# Altium footprint library AP62200Z6-7.PcbLib: 3 footprints
Each footprint in its own frame and in the unit in brackets; x right, y up, seen from the top. Pads: shape width x height; smd on the part's side, far side on the other; paste and mask are expansions set on the pad; w line width, h text height; cw(c..) or ccw(c..) is an arc to the next point about the centre after c.
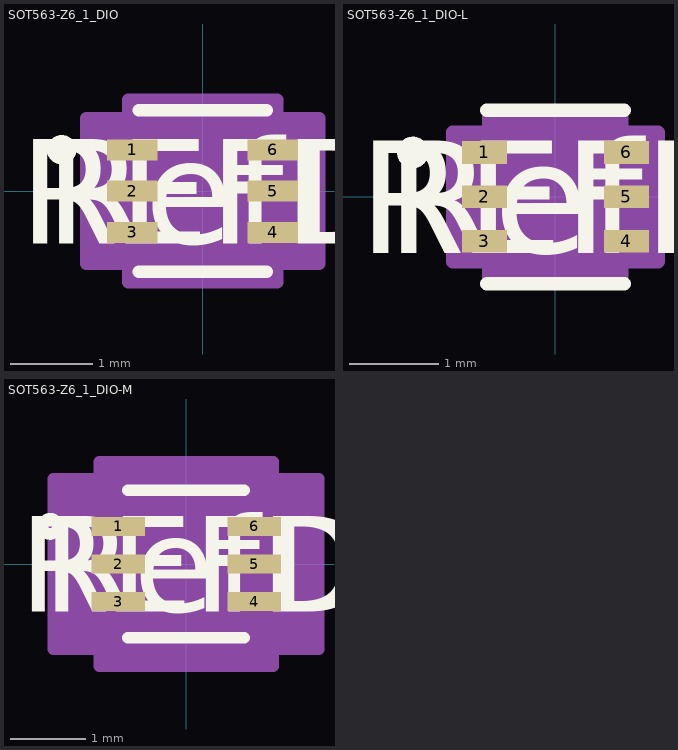
[diagram p0: the footprints below, top view; thin cyan lines are the x and y axes]

## SOT563-Z6_1_DIO [mil]
pads (6):
  rect 24x10 smd paste+0 mask+0: 1(-33.5,19.68) 2(-33.5,0) 3(-33.5,-19.68) 4(33.5,-19.68) 5(33.5,0) 6(33.5,19.68)
Top Overlay:
  circle w6: c-67.19,19.68 r4
  lines w6: -30.5,-38.5 30.5,-38.5 ; -30.5,38.5 30.5,38.5
  text "RefDes" at -75,-25 h50
  text "REFDES" at -87.5,-25 h50
Mechanical 13:
  circle w0: c-21.5,19.68 r3
  lines w0: -12,33.5 ccw(c0,33.5) 12,33.5
  lines w1: -25.5,-33.5 25.5,-33.5 25.5,33.5 -25.5,33.5 -25.5,-33.5
  text "RefDes2" at -87.5,-25 h50
Mechanical 15:
  region: -35.5,-34.69 -55.5,-34.69 -55.5,34.69 -35.5,34.69 -35.5,43.5 35.5,43.5 35.5,34.69 55.5,34.69 55.5,-34.69 35.5,-34.69 35.5,-43.5 -35.5,-43.5
  lines w6: -55.5,-34.69 -55.5,34.69 -35.5,34.69 -35.5,43.5 35.5,43.5 35.5,34.69 55.5,34.69 55.5,-34.69 35.5,-34.69 35.5,-43.5 -35.5,-43.5 -35.5,-34.69 -55.5,-34.69
3D body "SOT563-Z6_1_DIO.step": height 24.09, standoff 0, extent -33.5,-33.5 33.5,33.5

## SOT563-Z6_1_DIO-L [mil]
pads (6):
  rect 20x10 smd paste+0 mask+0: 1(-31.5,19.68) 2(-31.5,0) 3(-31.5,-19.68) 4(31.5,-19.68) 5(31.5,0) 6(31.5,19.68)
Top Overlay:
  circle w6: c-63.19,19.68 r4
  lines w6: -30.5,-38.5 30.5,-38.5 ; -30.5,38.5 30.5,38.5
  text "RefDes" at -75,-25 h50
  text "REFDES" at -87.5,-25 h50
Mechanical 13:
  circle w0: c-21.5,19.68 r3
  lines w0: -12,33.5 ccw(c0,33.5) 12,33.5
  lines w1: -25.5,-33.5 25.5,-33.5 25.5,33.5 -25.5,33.5 -25.5,-33.5
  text "RefDes2" at -87.5,-25 h50
Mechanical 15:
  region: -29.5,-28.68 -45.5,-28.68 -45.5,28.68 -29.5,28.68 -29.5,37.5 29.5,37.5 29.5,28.68 45.5,28.68 45.5,-28.68 29.5,-28.68 29.5,-37.5 -29.5,-37.5
  lines w6: -45.5,-28.68 -45.5,28.68 -29.5,28.68 -29.5,37.5 29.5,37.5 29.5,28.68 45.5,28.68 45.5,-28.68 29.5,-28.68 29.5,-37.5 -29.5,-37.5 -29.5,-28.68 -45.5,-28.68
3D body "SOT563-Z6_1_DIO.step": height 24.09, standoff 0, extent -33.5,-33.5 33.5,33.5

## SOT563-Z6_1_DIO-M [mil]
pads (6):
  rect 28x10 smd paste+0 mask+0: 1(-35.5,19.68) 2(-35.5,0) 3(-35.5,-19.68) 4(35.5,-19.68) 5(35.5,0) 6(35.5,19.68)
Top Overlay:
  circle w6: c-71.19,19.68 r4
  lines w6: -30.5,-38.5 30.5,-38.5 ; -30.5,38.5 30.5,38.5
  text "RefDes" at -75,-25 h50
  text "REFDES" at -87.5,-25 h50
Mechanical 13:
  circle w0: c-21.5,19.68 r3
  lines w0: -12,33.5 ccw(c0,33.5) 12,33.5
  lines w1: -25.5,-33.5 25.5,-33.5 25.5,33.5 -25.5,33.5 -25.5,-33.5
  text "RefDes2" at -87.5,-25 h50
Mechanical 15:
  region: -45.5,-44.69 -69.5,-44.69 -69.5,44.69 -45.5,44.69 -45.5,53.5 45.5,53.5 45.5,44.69 69.5,44.69 69.5,-44.69 45.5,-44.69 45.5,-53.5 -45.5,-53.5
  lines w6: -69.5,-44.69 -69.5,44.69 -45.5,44.69 -45.5,53.5 45.5,53.5 45.5,44.69 69.5,44.69 69.5,-44.69 45.5,-44.69 45.5,-53.5 -45.5,-53.5 -45.5,-44.69 -69.5,-44.69
3D body "SOT563-Z6_1_DIO.step": height 24.09, standoff 0, extent -33.5,-33.5 33.5,33.5